# EAGLE library part TPS6306X (library MyLibrary)
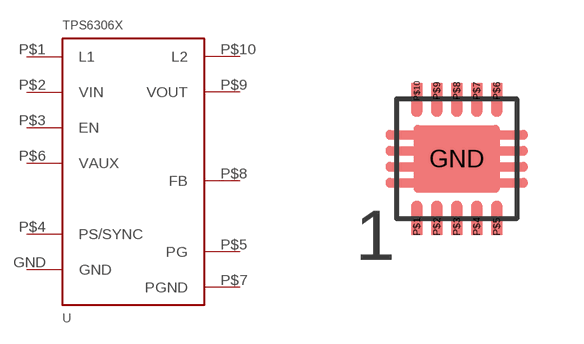
[diagram p17: symbol with the pads of WSON(10); footprint WSON(10)]

Designator prefix -

## TPS6306X  [WSON(10)]
GND  GND
P$1  L1
P$2  VIN
P$3  EN
P$4  PS/SYNC
P$5  PG
P$6  VAUX
P$7  PGND
P$8  FB
P$9  VOUT
P$10  L2

## Footprint WSON(10) (pad centres in mm)
smd 1.27 x 0.635: GND 0,0
smd 0.28 x 0.4: P$1 -1,-1.7; P$2 -0.5,-1.7; P$3 0,-1.7; P$4 0.5,-1.7; P$5 1,-1.7; P$6 1,1.7; P$7 0.5,1.7; P$8 0,1.7; P$9 -0.5,1.7; P$10 -1,1.7